# EAGLE library part A1200-EXPANSION (library Amiga)
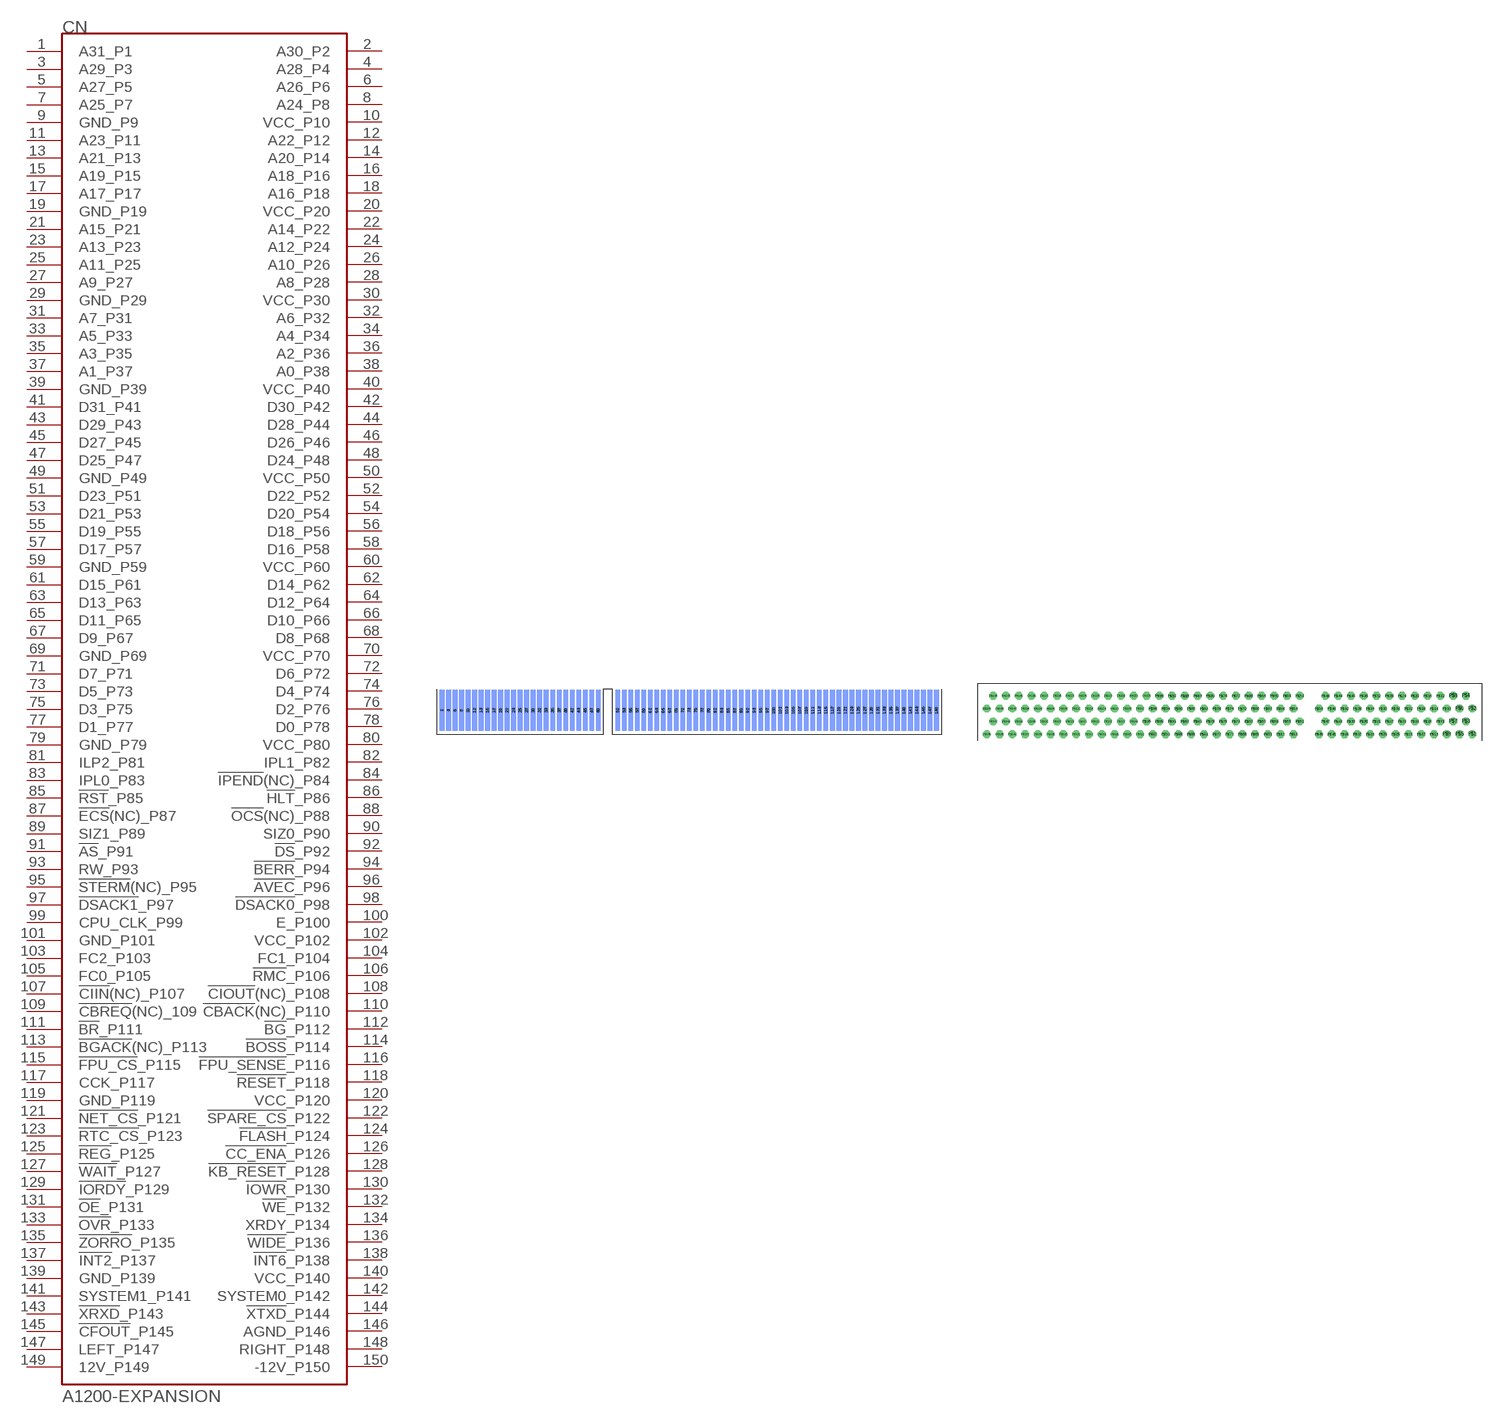
[diagram p15: symbol with the pads of EDGE_150; footprints EDGE_150, CON_150]

Designator prefix CN

## A1200-EXPANSION_EDGE  [EDGE_150]
1  A31_P1
2  A30_P2
3  A29_P3
4  A28_P4
5  A27_P5
6  A26_P6
7  A25_P7
8  A24_P8
9  GND_P9
10  VCC_P10
11  A23_P11
12  A22_P12
13  A21_P13
14  A20_P14
15  A19_P15
16  A18_P16
17  A17_P17
18  A16_P18
19  GND_P19
20  VCC_P20
21  A15_P21
22  A14_P22
23  A13_P23
24  A12_P24
25  A11_P25
26  A10_P26
27  A9_P27
28  A8_P28
29  GND_P29
30  VCC_P30
31  A7_P31
32  A6_P32
33  A5_P33
34  A4_P34
35  A3_P35
36  A2_P36
37  A1_P37
38  A0_P38
39  GND_P39
40  VCC_P40
41  D31_P41
42  D30_P42
43  D29_P43
44  D28_P44
45  D27_P45
46  D26_P46
47  D25_P47
48  D24_P48
49  GND_P49
50  VCC_P50
51  D23_P51
52  D22_P52
53  D21_P53
54  D20_P54
55  D19_P55
56  D18_P56
57  D17_P57
58  D16_P58
59  GND_P59
60  VCC_P60
61  D15_P61
62  D14_P62
63  D13_P63
64  D12_P64
65  D11_P65
66  D10_P66
67  D9_P67
68  D8_P68
69  GND_P69
70  VCC_P70
71  D7_P71
72  D6_P72
73  D5_P73
74  D4_P74
75  D3_P75
76  D2_P76
77  D1_P77
78  D0_P78
79  GND_P79
80  VCC_P80
81  ILP2_P81
82  IPL1_P82
83  IPL0_P83
84  !IPEND!(NC)_P84
85  !RST!_P85
86  !HLT!_P86
87  !ECS!(NC)_P87
88  !OCS!(NC)_P88
89  SIZ1_P89
90  SIZ0_P90
91  !AS!_P91
92  !DS!_P92
93  RW_P93
94  !BERR!_P94
95  !STERM!(NC)_P95
96  !AVEC!_P96
97  !DSACK1!_P97
98  !DSACK0!_P98
99  CPU_CLK_P99
100  E_P100
101  GND_P101
102  VCC_P102
103  FC2_P103
104  FC1_P104
105  FC0_P105
106  !RMC!_P106
107  !CIIN!(NC)_P107
108  !CIOUT!(NC)_P108
109  !CBREQ!(NC)_109
110  !CBACK!(NC)_P110
111  !BR!_P111
112  !BG!_P112
113  !BGACK!(NC)_P113
114  !BOSS!_P114
115  !FPU_CS!_P115
116  !FPU_SENSE!_P116
117  CCK_P117
118  !RESET!_P118
119  GND_P119
120  VCC_P120
121  !NET_CS!_P121
122  !SPARE_CS!_P122
123  !RTC_CS!_P123
124  !FLASH!_P124
125  !REG!_P125
126  !CC_ENA!_P126
127  !WAIT!_P127
128  !KB_RESET!_P128
129  !IORDY!_P129
130  !IOWR!_P130
131  !OE!_P131
132  !WE!_P132
133  !OVR!_P133
134  XRDY_P134
135  !ZORRO!_P135
136  !WIDE!_P136
137  !INT2!_P137
138  !INT6!_P138
139  GND_P139
140  VCC_P140
141  SYSTEM1_P141
142  SYSTEM0_P142
143  !XRXD!_P143
144  !XTXD!_P144
145  !CFOUT!_P145
146  AGND_P146
147  LEFT_P147
148  RIGHT_P148
149  12V_P149
150  -12V_P150

## A1200-EXPANSION_SLOT  [CON_150]
P$1  A31_P1
P$2  A30_P2
P$3  A29_P3
P$4  A28_P4
P$5  A27_P5
P$6  A26_P6
P$7  A25_P7
P$8  A24_P8
P$9  GND_P9
P$10  VCC_P10
P$11  A23_P11
P$12  A22_P12
P$13  A21_P13
P$14  A20_P14
P$15  A19_P15
P$16  A18_P16
P$17  A17_P17
P$18  A16_P18
P$19  GND_P19
P$20  VCC_P20
P$21  A15_P21
P$22  A14_P22
P$23  A13_P23
P$24  A12_P24
P$25  A11_P25
P$26  A10_P26
P$27  A9_P27
P$28  A8_P28
P$29  GND_P29
P$30  VCC_P30
P$31  A7_P31
P$32  A6_P32
P$33  A5_P33
P$34  A4_P34
P$35  A3_P35
P$36  A2_P36
P$37  A1_P37
P$38  A0_P38
P$39  GND_P39
P$40  VCC_P40
P$41  D31_P41
P$42  D30_P42
P$43  D29_P43
P$44  D28_P44
P$45  D27_P45
P$46  D26_P46
P$47  D25_P47
P$48  D24_P48
P$49  GND_P49
P$50  VCC_P50
P$51  D23_P51
P$52  D22_P52
P$53  D21_P53
P$54  D20_P54
P$55  D19_P55
P$56  D18_P56
P$57  D17_P57
P$58  D16_P58
P$59  GND_P59
P$60  VCC_P60
P$61  D15_P61
P$62  D14_P62
P$63  D13_P63
P$64  D12_P64
P$65  D11_P65
P$66  D10_P66
P$67  D9_P67
P$68  D8_P68
P$69  GND_P69
P$70  VCC_P70
P$71  D7_P71
P$72  D6_P72
P$73  D5_P73
P$74  D4_P74
P$75  D3_P75
P$76  D2_P76
P$77  D1_P77
P$78  D0_P78
P$79  GND_P79
P$80  VCC_P80
P$81  ILP2_P81
P$82  IPL1_P82
P$83  IPL0_P83
P$84  !IPEND!(NC)_P84
P$85  !RST!_P85
P$86  !HLT!_P86
P$87  !ECS!(NC)_P87
P$88  !OCS!(NC)_P88
P$89  SIZ1_P89
P$90  SIZ0_P90
P$91  !AS!_P91
P$92  !DS!_P92
P$93  RW_P93
P$94  !BERR!_P94
P$95  !STERM!(NC)_P95
P$96  !AVEC!_P96
P$97  !DSACK1!_P97
P$98  !DSACK0!_P98
P$99  CPU_CLK_P99
P$100  E_P100
P$101  GND_P101
P$102  VCC_P102
P$103  FC2_P103
P$104  FC1_P104
P$105  FC0_P105
P$106  !RMC!_P106
P$107  !CIIN!(NC)_P107
P$108  !CIOUT!(NC)_P108
P$109  !CBREQ!(NC)_109
P$110  !CBACK!(NC)_P110
P$111  !BR!_P111
P$112  !BG!_P112
P$113  !BGACK!(NC)_P113
P$114  !BOSS!_P114
P$115  !FPU_CS!_P115
P$116  !FPU_SENSE!_P116
P$117  CCK_P117
P$118  !RESET!_P118
P$119  GND_P119
P$120  VCC_P120
P$121  !NET_CS!_P121
P$122  !SPARE_CS!_P122
P$123  !RTC_CS!_P123
P$124  !FLASH!_P124
P$125  !REG!_P125
P$126  !CC_ENA!_P126
P$127  !WAIT!_P127
P$128  !KB_RESET!_P128
P$129  !IORDY!_P129
P$130  !IOWR!_P130
P$131  !OE!_P131
P$132  !WE!_P132
P$133  !OVR!_P133
P$134  XRDY_P134
P$135  !ZORRO!_P135
P$136  !WIDE!_P136
P$137  !INT2!_P137
P$138  !INT6!_P138
P$139  GND_P139
P$140  VCC_P140
P$141  SYSTEM1_P141
P$142  SYSTEM0_P142
P$143  !XRXD!_P143
P$144  !XTXD!_P144
P$145  !CFOUT!_P145
P$146  AGND_P146
P$147  LEFT_P147
P$148  RIGHT_P148
P$149  12V_P149
P$150  -12V_P150

## A1200-EXPANSION_SLOT-SMALL-HOLES  [CON_150_SMALL_HOLES]
Pads as for CON_150

## Footprint EDGE_150 (pad centres in mm)
Amiga 1200 Expansion Port Card Eddge
smd 0.91 x 7.97 bottom: 1 0.953,4.128; 3 2.223,4.128; 5 3.493,4.128; 7 4.763,4.128; 9 6.032,4.128; 11 7.303,4.128; 13 8.572,4.128; 15 9.842,4.128; 17 11.113,4.128; 19 12.383,4.128; 21 13.652,4.128; 23 14.922,4.128; 25 16.192,4.128; 27 17.462,4.128; 29 18.733,4.128; 31 20.003,4.128; 33 21.273,4.128; 35 22.543,4.128; 37 23.812,4.128; 39 25.082,4.128; 41 26.352,4.128; 43 27.622,4.128; 45 28.892,4.128; 47 30.163,4.128; 49 31.433,4.128; 51 35.242,4.128; 53 36.513,4.128; 55 37.782,4.128; 57 39.053,4.128; 59 40.322,4.128; 61 41.593,4.128; 63 42.862,4.128; 65 44.133,4.128; 67 45.403,4.128; 69 46.672,4.128; 71 47.943,4.128; 73 49.212,4.128; 75 50.483,4.128; 77 51.752,4.128; 79 53.023,4.128; 81 54.292,4.128; 83 55.562,4.128; 85 56.833,4.128; 87 58.102,4.128; 89 59.373,4.128; 91 60.642,4.128; 93 61.913,4.128; 95 63.182,4.128; 97 64.453,4.128; 99 65.722,4.128; 101 66.993,4.128; 103 68.263,4.128; 105 69.532,4.128; 107 70.802,4.128; 109 72.073,4.128; 111 73.343,4.128; 113 74.612,4.128; 115 75.882,4.128; 117 77.153,4.128; 119 78.422,4.128; 121 79.692,4.128; 123 80.963,4.128; 125 82.233,4.128; 127 83.502,4.128; 129 84.772,4.128; 131 86.043,4.128; 133 87.312,4.128; 135 88.582,4.128; 137 89.853,4.128; 139 91.123,4.128; 141 92.392,4.128; 143 93.662,4.128; 145 94.933,4.128; 147 96.203,4.128; 149 97.472,4.128
smd 0.91 x 7.97: 2 0.953,4.128; 4 2.223,4.128; 6 3.493,4.128; 8 4.763,4.128; 10 6.032,4.128; 12 7.303,4.128; 14 8.572,4.128; 16 9.842,4.128; 18 11.113,4.128; 20 12.383,4.128; 22 13.652,4.128; 24 14.922,4.128; 26 16.192,4.128; 28 17.462,4.128; 30 18.733,4.128; 32 20.003,4.128; 34 21.273,4.128; 36 22.543,4.128; 38 23.812,4.128; 40 25.082,4.128; 42 26.352,4.128; 44 27.622,4.128; 46 28.892,4.128; 48 30.163,4.128; 50 31.433,4.128; 52 35.242,4.128; 54 36.513,4.128; 56 37.782,4.128; 58 39.053,4.128; 60 40.322,4.128; 62 41.593,4.128; 64 42.862,4.128; 66 44.133,4.128; 68 45.403,4.128; 70 46.672,4.128; 72 47.943,4.128; 74 49.212,4.128; 76 50.483,4.128; 78 51.752,4.128; 80 53.023,4.128; 82 54.292,4.128; 84 55.562,4.128; 86 56.833,4.128; 88 58.102,4.128; 90 59.373,4.128; 92 60.642,4.128; 94 61.913,4.128; 96 63.182,4.128; 98 64.453,4.128; 100 65.722,4.128; 102 66.993,4.128; 104 68.263,4.128; 106 69.532,4.128; 108 70.802,4.128; 110 72.073,4.128; 112 73.343,4.128; 114 74.612,4.128; 116 75.882,4.128; 118 77.153,4.128; 120 78.422,4.128; 122 79.692,4.128; 124 80.963,4.128; 126 82.233,4.128; 128 83.502,4.128; 130 84.772,4.128; 132 86.043,4.128; 134 87.312,4.128; 136 88.582,4.128; 138 89.853,4.128; 140 91.123,4.128; 142 92.392,4.128; 144 93.662,4.128; 146 94.933,4.128; 148 96.203,4.128; 150 97.472,4.128

## Footprint CON_150 (pad centres in mm)
drill 1.016 octagon: P$1 32.385,-3.81; P$2 32.385,1.27; P$3 31.115,-1.27; P$4 31.115,3.81; P$5 29.845,-3.81; P$6 29.845,1.27; P$7 28.575,-1.27; P$8 28.575,3.81; P$9 27.305,-3.81; P$10 27.305,1.27; P$11 26.035,-1.27; P$12 26.035,3.81; P$13 24.765,-3.81; P$14 24.765,1.27; P$15 23.495,-1.27; P$16 23.495,3.81; P$17 22.225,-3.81; P$18 22.225,1.27; P$19 20.955,-1.27; P$20 20.955,3.81; P$21 19.685,-3.81; P$22 19.685,1.27; P$23 18.415,-1.27; P$24 18.415,3.81; P$25 17.145,-3.81; P$26 17.145,1.27; P$27 15.875,-1.27; P$28 15.875,3.81; P$29 14.605,-3.81; P$30 14.605,1.27; P$31 13.335,-1.27; P$32 13.335,3.81; P$33 12.065,-3.81; P$34 12.065,1.27; P$35 10.795,-1.27; P$36 10.795,3.81; P$37 9.525,-3.81; P$38 9.525,1.27; P$39 8.255,-1.27; P$40 8.255,3.81; P$41 6.985,-3.81; P$42 6.985,1.27; P$43 5.715,-1.27; P$44 5.715,3.81; P$45 4.445,-3.81; P$46 4.445,1.27; P$47 3.175,-1.27; P$48 3.175,3.81; P$49 1.905,-3.81; P$50 1.905,1.27; P$51 -1.905,-1.27; P$52 -1.905,3.81; P$53 -3.175,-3.81; P$54 -3.175,1.27; P$55 -4.445,-1.27; P$56 -4.445,3.81; P$57 -5.715,-3.81; P$58 -5.715,1.27; P$59 -6.985,-1.27; P$60 -6.985,3.81; P$61 -8.255,-3.81; P$62 -8.255,1.27; P$63 -9.525,-1.27; P$64 -9.525,3.81; P$65 -10.795,-3.81; P$66 -10.795,1.27; P$67 -12.065,-1.27; P$68 -12.065,3.81; P$69 -13.335,-3.81; P$70 -13.335,1.27; P$71 -14.605,-1.27; P$72 -14.605,3.81; P$73 -15.875,-3.81; P$74 -15.875,1.27; P$75 -17.145,-1.27; P$76 -17.145,3.81; P$77 -18.415,-3.81; P$78 -18.415,1.27; P$79 -19.685,-1.27; P$80 -19.685,3.81; P$81 -20.955,-3.81; P$82 -20.955,1.27; P$83 -22.225,-1.27; P$84 -22.225,3.81; P$85 -23.495,-3.81; P$86 -23.495,1.27; P$87 -24.765,-1.27; P$88 -24.765,3.81; P$89 -26.035,-3.81; P$90 -26.035,1.27; P$91 -27.305,-1.27; P$92 -27.305,3.81; P$93 -28.575,-3.81; P$94 -28.575,1.27; P$95 -29.845,-1.27; P$96 -29.845,3.81; P$97 -31.115,-3.81; P$98 -31.115,1.27; P$99 -32.385,-1.27; P$100 -32.385,3.81; P$101 -33.655,-3.81; P$102 -33.655,1.27; P$103 -34.925,-1.27; P$104 -34.925,3.81; P$105 -36.195,-3.81; P$106 -36.195,1.27; P$107 -37.465,-1.27; P$108 -37.465,3.81; P$109 -38.735,-3.81; P$110 -38.735,1.27; P$111 -40.005,-1.27; P$112 -40.005,3.81; P$113 -41.275,-3.81; P$114 -41.275,1.27; P$115 -42.545,-1.27; P$116 -42.545,3.81; P$117 -43.815,-3.81; P$118 -43.815,1.27; P$119 -45.085,-1.27; P$120 -45.085,3.81; P$121 -46.355,-3.81; P$122 -46.355,1.27; P$123 -47.625,-1.27; P$124 -47.625,3.81; P$125 -48.895,-3.81; P$126 -48.895,1.27; P$127 -50.165,-1.27; P$128 -50.165,3.81; P$129 -51.435,-3.81; P$130 -51.435,1.27; P$131 -52.705,-1.27; P$132 -52.705,3.81; P$133 -53.975,-3.81; P$134 -53.975,1.27; P$135 -55.245,-1.27; P$136 -55.245,3.81; P$137 -56.515,-3.81; P$138 -56.515,1.27; P$139 -57.785,-1.27; P$140 -57.785,3.81; P$141 -59.055,-3.81; P$142 -59.055,1.27; P$143 -60.325,-1.27; P$144 -60.325,3.81; P$145 -61.595,-3.81; P$146 -61.595,1.27; P$147 -62.865,-1.27; P$148 -62.865,3.81; P$149 -64.135,-3.81; P$150 -64.135,1.27

## Footprint CON_150_SMALL_HOLES (pad centres in mm)
drill 0.8 octagon: P$1 32.385,-3.81; P$2 32.385,1.27; P$3 31.115,-1.27; P$4 31.115,3.81; P$5 29.845,-3.81; P$6 29.845,1.27; P$7 28.575,-1.27; P$8 28.575,3.81; P$9 27.305,-3.81; P$10 27.305,1.27; P$11 26.035,-1.27; P$12 26.035,3.81; P$13 24.765,-3.81; P$14 24.765,1.27; P$15 23.495,-1.27; P$16 23.495,3.81; P$17 22.225,-3.81; P$18 22.225,1.27; P$19 20.955,-1.27; P$20 20.955,3.81; P$21 19.685,-3.81; P$22 19.685,1.27; P$23 18.415,-1.27; P$24 18.415,3.81; P$25 17.145,-3.81; P$26 17.145,1.27; P$27 15.875,-1.27; P$28 15.875,3.81; P$29 14.605,-3.81; P$30 14.605,1.27; P$31 13.335,-1.27; P$32 13.335,3.81; P$33 12.065,-3.81; P$34 12.065,1.27; P$35 10.795,-1.27; P$36 10.795,3.81; P$37 9.525,-3.81; P$38 9.525,1.27; P$39 8.255,-1.27; P$40 8.255,3.81; P$41 6.985,-3.81; P$42 6.985,1.27; P$43 5.715,-1.27; P$44 5.715,3.81; P$45 4.445,-3.81; P$46 4.445,1.27; P$47 3.175,-1.27; P$48 3.175,3.81; P$49 1.905,-3.81; P$50 1.905,1.27; P$51 -1.905,-1.27; P$52 -1.905,3.81; P$53 -3.175,-3.81; P$54 -3.175,1.27; P$55 -4.445,-1.27; P$56 -4.445,3.81; P$57 -5.715,-3.81; P$58 -5.715,1.27; P$59 -6.985,-1.27; P$60 -6.985,3.81; P$61 -8.255,-3.81; P$62 -8.255,1.27; P$63 -9.525,-1.27; P$64 -9.525,3.81; P$65 -10.795,-3.81; P$66 -10.795,1.27; P$67 -12.065,-1.27; P$68 -12.065,3.81; P$69 -13.335,-3.81; P$70 -13.335,1.27; P$71 -14.605,-1.27; P$72 -14.605,3.81; P$73 -15.875,-3.81; P$74 -15.875,1.27; P$75 -17.145,-1.27; P$76 -17.145,3.81; P$77 -18.415,-3.81; P$78 -18.415,1.27; P$79 -19.685,-1.27; P$80 -19.685,3.81; P$81 -20.955,-3.81; P$82 -20.955,1.27; P$83 -22.225,-1.27; P$84 -22.225,3.81; P$85 -23.495,-3.81; P$86 -23.495,1.27; P$87 -24.765,-1.27; P$88 -24.765,3.81; P$89 -26.035,-3.81; P$90 -26.035,1.27; P$91 -27.305,-1.27; P$92 -27.305,3.81; P$93 -28.575,-3.81; P$94 -28.575,1.27; P$95 -29.845,-1.27; P$96 -29.845,3.81; P$97 -31.115,-3.81; P$98 -31.115,1.27; P$99 -32.385,-1.27; P$100 -32.385,3.81; P$101 -33.655,-3.81; P$102 -33.655,1.27; P$103 -34.925,-1.27; P$104 -34.925,3.81; P$105 -36.195,-3.81; P$106 -36.195,1.27; P$107 -37.465,-1.27; P$108 -37.465,3.81; P$109 -38.735,-3.81; P$110 -38.735,1.27; P$111 -40.005,-1.27; P$112 -40.005,3.81; P$113 -41.275,-3.81; P$114 -41.275,1.27; P$115 -42.545,-1.27; P$116 -42.545,3.81; P$117 -43.815,-3.81; P$118 -43.815,1.27; P$119 -45.085,-1.27; P$120 -45.085,3.81; P$121 -46.355,-3.81; P$122 -46.355,1.27; P$123 -47.625,-1.27; P$124 -47.625,3.81; P$125 -48.895,-3.81; P$126 -48.895,1.27; P$127 -50.165,-1.27; P$128 -50.165,3.81; P$129 -51.435,-3.81; P$130 -51.435,1.27; P$131 -52.705,-1.27; P$132 -52.705,3.81; P$133 -53.975,-3.81; P$134 -53.975,1.27; P$135 -55.245,-1.27; P$136 -55.245,3.81; P$137 -56.515,-3.81; P$138 -56.515,1.27; P$139 -57.785,-1.27; P$140 -57.785,3.81; P$141 -59.055,-3.81; P$142 -59.055,1.27; P$143 -60.325,-1.27; P$144 -60.325,3.81; P$145 -61.595,-3.81; P$146 -61.595,1.27; P$147 -62.865,-1.27; P$148 -62.865,3.81; P$149 -64.135,-3.81; P$150 -64.135,1.27